# Altium footprint library ALTAIR_PD_DiodesSMD.PcbLib: 3 footprints
Each footprint in its own frame and in the unit in brackets; x right, y up, seen from the top. Pads: shape width x height; smd on the part's side, far side on the other; paste and mask are expansions set on the pad; w line width, h text height; cw(c..) or ccw(c..) is an arc to the next point about the centre after c.
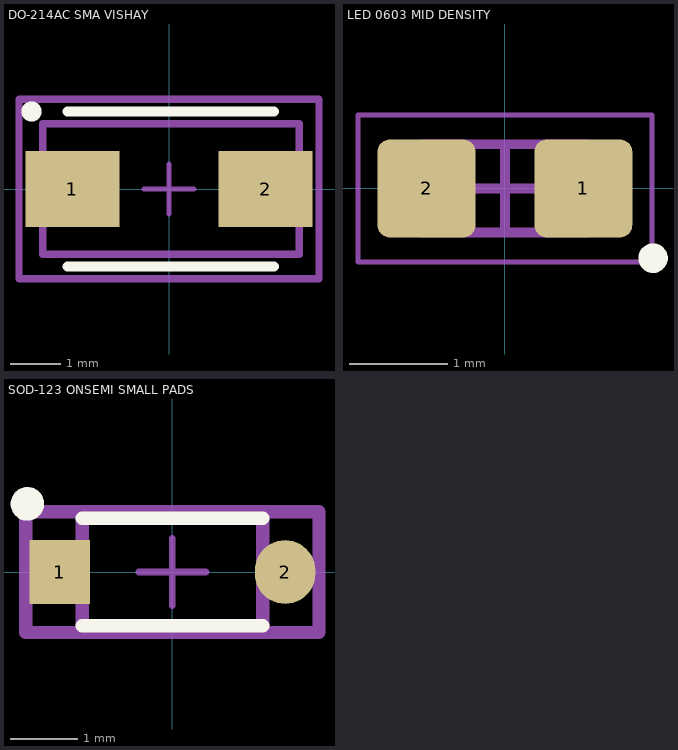
[diagram p0: the footprints below, top view; thin cyan lines are the x and y axes]

## DO-214AC SMA VISHAY [mm]
pads (2):
  rect 1.88x1.52 smd mask+0: 1(-1.93,0) 2(1.93,0)
Top Overlay:
  circle w0.254: c-2.75,1.55 r0.075
  lines w0.2: -2.025,-1.55 2.1,-1.55 ; -2.025,1.55 2.1,1.55
Top Courtyard:
  lines w0.15: -3,-1.8 3,-1.8 3,1.8 -3,1.8 -3,-1.8
Top 3D Body:
  lines w0.15: -2.525,-1.3 2.6,-1.3 2.6,1.3 -2.525,1.3 -2.525,-1.3
Top Component Center:
  lines w0.1: -0.5,0 0.5,0 ; 0,-0.5 0,0.5
3D body "SMAJ12A-E3_61.STEP": height 2.29, standoff 0, extent -2.553,-1.333 2.553,1.333

## LED 0603 MID DENSITY [mm]
pads (2):
  rrect25% 1x1 smd: 1(0.8,0) 2(-0.8,0)
Top Overlay:
  circle w0.2: c1.512,-0.712 r0.05
Top Assembly:
  lines w0.1: -0.85,-0.45 0.85,-0.45 0.85,0.45 -0.85,0.45 -0.85,-0.45
Top Courtyard:
  lines w0.05: -1.5,-0.75 1.5,-0.75 1.5,0.75 -1.5,0.75 -1.5,-0.75
  lines w0.1: -0.45,0 0.45,0 ; 0,-0.45 0,0.45
3D body "STEP-WL-SMCW-0603-rev1.stp": height 0.7, standoff 0, extent -0.8,-0.4 0.8,0.4

## SOD-123 ONSEMI SMALL PADS [mm]
pads (2):
  rect 0.9x0.95 smd paste+0 mask+0: 1(-1.68,0)
  rrect100% 0.9x0.95 smd paste+0 mask+0: 2(1.68,0)
Top Overlay:
  circle w0.25: c-2.159,1.016 r0.125
  lines w0.2: -1.345,-0.8 1.345,-0.8 ; -1.345,0.8 1.345,0.8
Top Assembly:
  lines w0.2: -2.184,-0.9 2.184,-0.9 2.184,0.9 -2.184,0.9 -2.184,-0.9
  text ".Designator" at 0,0.188 h1
Top Courtyard:
  lines w0.2: -2.184,-0.9 -2.184,0.9 2.184,0.9 2.184,-0.9 -2.184,-0.9
Top 3D Body:
  lines w0.2: -1.345,-0.8 -1.345,0.8 1.345,0.8 1.345,-0.8 -1.345,-0.8
Top Component Center:
  lines w0.1: -0.5,0 0.5,0 ; 0,-0.5 0,0.5
3D body "Diode_ON_Semiconductor_SZMMSZ5264BT1G_eec.STEP": height 1.35, standoff 0, extent -1.84,-0.8 1.84,0.8